# Altium schematic symbol library TPA6120A2DWPR.SchLib: 1 symbol
Pins are listed as number, name and electrical type; pins without a type are passive.

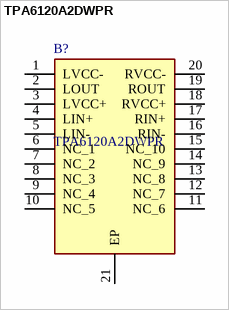
[diagram p0: symbol TPA6120A2DWPR]

## TPA6120A2DWPR
designator B?
Audio Amplifiers High Fidelity Stereo Headphone Drv; Manufacturer_Name: Texas Instruments; Geometry.Height: 2.75mm; Mouser Part Number: 595-TPA6120A2DWPR; Mouser Price/Stock: https://www.mouser.co.uk/ProductDetail/Texas-Instruments/TPA6120A2DWPR?qs=ojKcPFmCWSXiGd7G5JhN2A%3D%3D; Manufacturer_Part_Number: TPA6120A2DWPR; Datasheet Link: http://www.ti.com/lit/ds/symlink/tpa6120a2.pdf
footprint SOIC127P1040X275-21N
pins: 1 LVCC-, 2 LOUT, 3 LVCC+, 4 LIN+, 5 LIN-, 6 NC_1, 7 NC_2, 8 NC_3, 9 NC_4, 10 NC_5, 11 NC_6, 12 NC_7, 13 NC_8, 14 NC_9, 15 NC_10, 16 RIN-, 17 RIN+, 18 RVCC+, 19 ROUT, 20 RVCC-, 21 EP